# EAGLE library part TAG_CONNECT_HEADER_ARM (library headers)
Tag Connect footprint for ARM JTAG. 10 pin ARM Cortex Debug Connector.
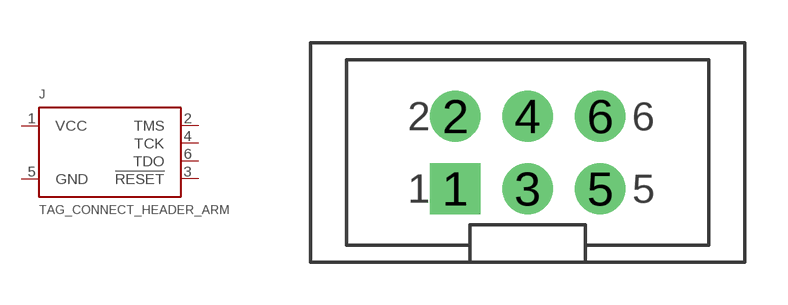
[diagram p6: symbol with the pads of 2X3_MALE_SHROUDED_0.100; footprint 2X3_MALE_SHROUDED_0.100]

Designator prefix J

## TAG_CONNECT_HEADER_ARM  [2X3_MALE_SHROUDED_0.100]
1  VCC
2  TMS
3  !RESET
4  TCK
5  GND
6  TDO

## Footprint 2X3_MALE_SHROUDED_0.100 (pad centres in mm)
2x3 Shrouded 0.100"
drill 1.016 pad 1.778 square: 1 -2.54,-1.27
drill 1.016 pad 1.778: 2 -2.54,1.27; 3 0,-1.27; 4 0,1.27; 5 2.54,-1.27; 6 2.54,1.27